# Altium schematic symbol library Diode_On_Semiconductor_MBRD1035CTLT4G_eec.SchLib: 1 symbol
Pins are listed as number, name and electrical type; pins without a type are passive.

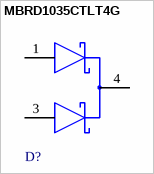
[diagram p0: symbol MBRD1035CTLT4G]

## MBRD1035CTLT4G
designator D?  (value not drawn)
pins: 1 1 ANODE, 3 2 ANODE, 4 COMMON CATHODE